# EAGLE library part WE-FLEX+_ETD39 (library WE-FLEX+)
WE-FLEX+ Flexible Transformer for DC/DC Converter Characteristics Transformer with 6 identical windings Power up to 300 W possible Isolation voltage 500 VDC Low leakage inductance Operating temperature: –40 °C to +125 °C Applications All kind of switching regulators -Flyback converters -Forward converters -Push-pull converters -Step-up/step-down converters -SEPIC converter <https://katalog.we-online.com/media/images/v2/o14788v209%20Family_WE-FLEX_PLUS.jpg> Details see: https://katalog.we-online.com/en/pbs/WE-FLEX-PLUS Updated by Yingchun, Shan 2019-08-15 2019(C) Wurth Elektronik
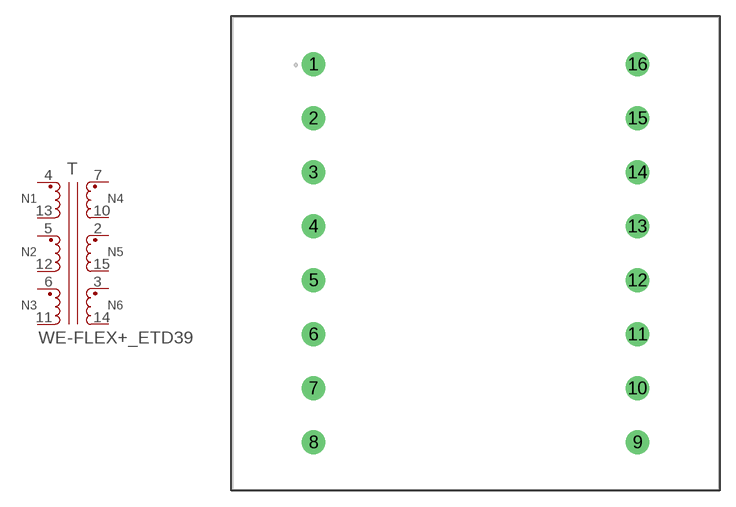
[diagram p1: symbol with the pads of WE-FLEX+_ETD39; footprint WE-FLEX+_ETD39]

Designator prefix T

## WE-FLEX+_ETD39_749197301 (DATASHEET-URL: https://katalog.we-online.com/pbs/datasheet/749197301.pdf; IRBASE: 3.2A; ISATBASE: 0.2A; LSBASE: 0.35uH; N: 1:1:1:1:1:1; PART-NUMBER: 749197301; RDCBASE: 34mOhm; VALUE: 326.7uH; VT: 500 V (AC)), WE-FLEX+_ETD39_749197311 (DATASHEET-URL: https://katalog.we-online.com/pbs/datasheet/749197311.pdf; IRBASE: 3.2A; ISATBASE: 0.32A; LSBASE: 0.35uH; N: 1:1:1:1:1:1; PART-NUMBER: 749197311; RDCBASE: 34mOhm; VALUE: 128.5uH; VT: 500 V (AC)), WE-FLEX+_ETD39_749197321 (DATASHEET-URL: https://katalog.we-online.com/pbs/datasheet/749197321.pdf; IRBASE: 3.2A; ISATBASE: 0.68A; LSBASE: 0.35uH; N: 1:1:1:1:1:1; PART-NUMBER: 749197321; RDCBASE: 34mOhm; VALUE: 77.3uH; VT: 500 V (AC)), WE-FLEX+_ETD39_749197331 (DATASHEET-URL: https://katalog.we-online.com/pbs/datasheet/749197331.pdf; IRBASE: 3.2A; ISATBASE: 1.65A; LSBASE: 0.35uH; N: 1:1:1:1:1:1; PART-NUMBER: 749197331; RDCBASE: 34mOhm; VALUE: 39.4uH; VT: 500 V (AC)), WE-FLEX+_ETD39_749197341 (DATASHEET-URL: https://katalog.we-online.com/pbs/datasheet/749197341.pdf; IRBASE: 3.2A; ISATBASE: 3.25A; LSBASE: 0.35uH; N: 1:1:1:1:1:1; PART-NUMBER: 749197341; RDCBASE: 34mOhm; VALUE: 223.7uH; VT: 500 V (AC))  [WE-FLEX+_ETD39]
2  10  pas
3  8  pas
4  1  pas
5  3  pas
6  5  pas
7  12  pas
10  11  pas
11  6  pas
12  4  pas
13  2  pas
14  7  pas
15  9  pas

## Footprint WE-FLEX+_ETD39 (pad centres in mm)
WE-FLEX+ Flexible Transformer for DC/DC Converter Size: ETD39 THT 16Pin
drill 1.5: 1 -15.24,17.78; 2 -15.24,12.7; 3 -15.24,7.62; 4 -15.24,2.54; 5 -15.24,-2.54; 6 -15.24,-7.62; 7 -15.24,-12.7; 8 -15.24,-17.78; 9 15.24,-17.78; 10 15.24,-12.7; 11 15.24,-7.62; 12 15.24,-2.54; 13 15.24,2.54; 14 15.24,7.62; 15 15.24,12.7; 16 15.24,17.78